# Altium footprint library Empreintes_LIB_atelier1A.PcbLib: 72 footprints (part 4 of 5)
Each footprint in its own frame and in the unit in brackets; x right, y up, seen from the top. Pads: shape width x height; smd on the part's side, far side on the other; paste and mask are expansions set on the pad; w line width, h text height; cw(c..) or ccw(c..) is an arc to the next point about the centre after c.
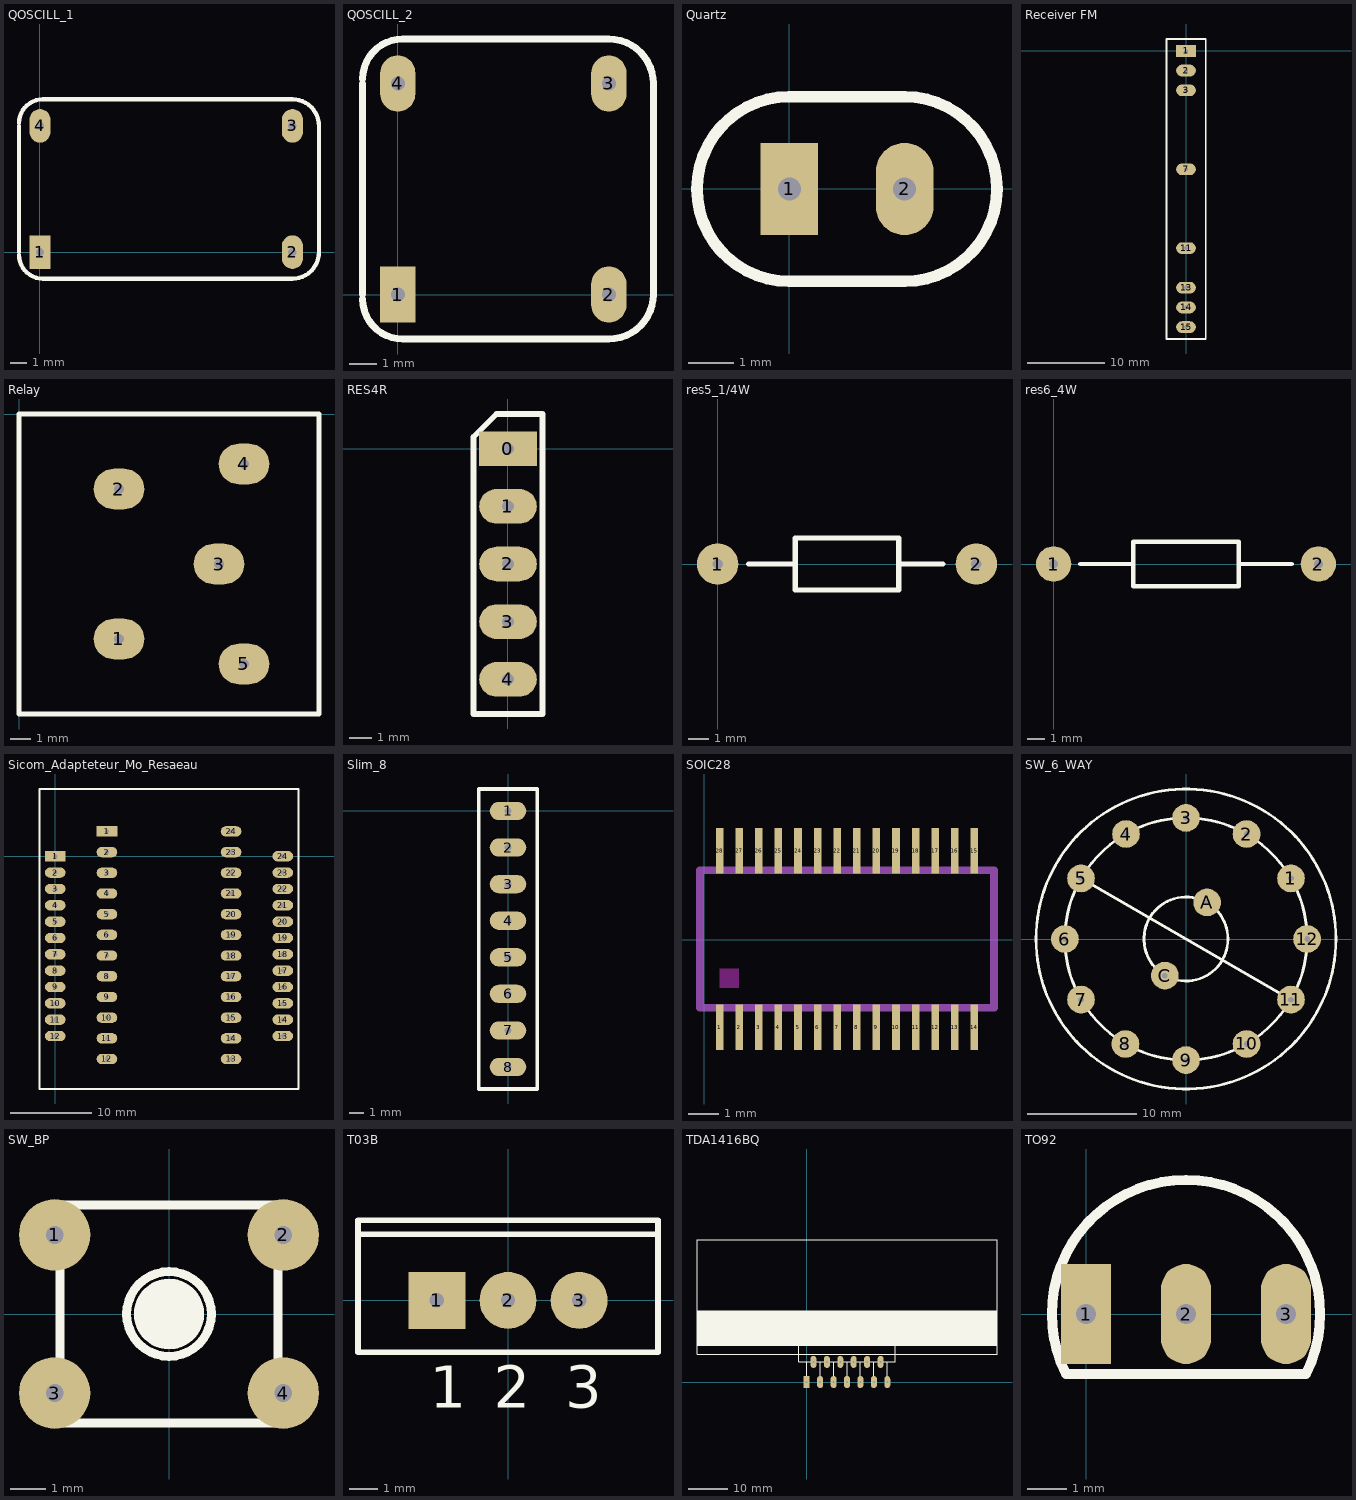
[diagram p3: the footprints below, top view; thin cyan lines are the x and y axes]

## QOSCILL_1 [mil]
pads (4):
  rect 50x80 hole 20: 1(0,0)
  oval 50x80 hole 20: 2(600,0) 3(600,300) 4(0,300)
TopOverlay:
  lines w10: -49.89,-6.68 ccw(c6.68,-6.68) 6.68,-63.25 600,-63.25 ccw(c600,0) 663.25,0 663.25,300 ccw(c600,300) 600,363.25 6.68,363.25 ccw(c6.68,306.68) -49.89,306.68 ; -49.89,0 -49.89,300

## QOSCILL_2 [mil]
pads (4):
  rect 50x80 hole 20: 1(0,0)
  oval 50x80 hole 20: 2(300,0) 3(300,300) 4(0,300)
TopOverlay:
  lines w10: -49.89,-6.68 ccw(c6.68,-6.68) 6.68,-63.25 300,-63.25 ccw(c300,0) 363.25,0 363.25,300 ccw(c300,300) 300,363.25 6.68,363.25 ccw(c6.68,306.68) -49.89,306.68 ; -49.89,0 -49.89,300

## Quartz [mil]
pads (2):
  rect 50x80 hole 20: 1(0,0)
  oval 50x80 hole 20: 2(100,0)
TopOverlay:
  lines w10: 0,-80 cw(c0,0) 0,80 100,80 cw(c100,0) 100,-80 0,-80

## Receiver FM [mil]
pads (8):
  rect 100x60 hole 20: 1(0,0)
  oval 100x60 hole 20: 2(0,-100) 3(0,-200) 7(0,-600) 11(0,-1000) 13(0,-1200) 14(0,-1300) 15(0,-1400)
TopOverlay:
  lines w10: -100,-1460 100,-1460 100,20 100,60 -100,60 -100,20 -100,-1460

## Relay [mil]
pads (5):
  oval 100x80 hole 20: 1(196.85,-442.91) 2(196.85,-147.64) 3(393.7,-295.28) 4(442.91,-98.42) 5(442.91,-492.13)
TopOverlay:
  lines w10: 0,-590.55 590.55,-590.55 590.55,0 0,0 0,-590.55

## RES4R [mil]
pads (5):
  rect 100x60 hole 20: 0(0,0)
  oval 100x60 hole 20: 1(0,-100) 2(0,-200) 3(0,-300) 4(0,-400)
TopOverlay:
  lines w10: -60,-460 60,-460 60,60 -20,60 -60,20 -60,-460

## res5_1/4W [mil]
pads (2):
  round 80 hole 20: 1(0,0) 2(500,0)
TopOverlay:
  lines w10: 60,0 145,0 ; 350,0 435,0 ; 150,-50 180,-50 350,-50 350,50 180,50 150,50 150,0 150,-50

## res6_4W [mil]
pads (2):
  round 80 hole 20: 1(0,0) 2(600,0)
TopOverlay:
  lines w10: 60,0 180,0 ; 420,0 540,0 ; 180,-50 420,-50 420,50 180,50 180,-50

## Sicom_Adapteteur_Mo_Resaeau [mil]
pads (48):
  rect 100x50 hole 20: 1(0,0) 1(250,120)
  oval 100x50 hole 20: 2(0,-79) 2(250,20) 3(0,-158) 3(250,-80) 4(0,-237) 4(250,-180) 5(0,-316) 5(250,-280) 6(0,-395) 6(250,-380) 7(0,-474) 7(250,-480) 8(0,-553) 8(250,-580) 9(0,-632) 9(250,-680) 10(0,-711) 10(250,-780) 11(0,-790) 11(250,-880) 12(0,-869) 12(250,-980) 13(850,-980) 13(1100,-869) 14(850,-880) 14(1100,-790) 15(850,-780) 15(1100,-711) 16(850,-680) 16(1100,-632) 17(850,-580) 17(1100,-553) 18(850,-480) 18(1100,-474) 19(850,-380) 19(1100,-395) 20(850,-280) 20(1100,-316) 21(850,-180) 21(1100,-237) 22(850,-80) 22(1100,-158) 23(850,20) 23(1100,-79) 24(850,120) 24(1100,0)
TopOverlay:
  lines w10: -75,-1125 -75,325 1175,325 1175,-1125 -75,-1125

## Slim_8 [mil]
pads (8):
  oval 100x50 hole 20: 1(0,0) 2(0,-100) 3(0,-200) 4(0,-300) 5(0,-400) 6(0,-500) 7(0,-600) 8(0,-700)
TopOverlay:
  lines w10: -80,-760 80,-760 80,60 -80,60 -80,-760

## SOIC28 [mm]
pads (28):
  rect 0.25x1.5 smd: 1(0.508,-2.906) 2(1.158,-2.906) 3(1.808,-2.906) 4(2.458,-2.906) 5(3.108,-2.906) 6(3.758,-2.906) 7(4.408,-2.906) 8(5.058,-2.906) 9(5.708,-2.906) 10(6.358,-2.906) 11(7.008,-2.906) 12(7.658,-2.906) 13(8.308,-2.906) 14(8.958,-2.906) 15(8.958,2.944) 16(8.308,2.944) 17(7.658,2.944) 18(7.008,2.944) 19(6.358,2.944) 20(5.708,2.944) 21(5.058,2.944) 22(4.408,2.944) 23(3.758,2.944) 24(3.108,2.944) 25(2.458,2.944) 26(1.808,2.944) 27(1.158,2.944) 28(0.508,2.944)
KeepOutLayer:
  rectangle: 0.508,-1.606 1.158,-0.956
Mechanical1:
  lines w0.254: -0.142,-2.256 -0.142,2.294 9.608,2.294 9.608,-2.256 -0.142,-2.256

## SW_6_WAY [mm]
pads (14):
  round 2.54 hole 0.508: 1(9.625,5.55) 2(5.55,9.625) 3(0,11.1) 4(-5.5,9.625) 5(-9.625,5.55) 6(-11.1,0) 7(-9.625,-5.55) 8(-5.55,-9.625) 9(0,-11.1) 10(5.55,-9.625) 11(9.625,-5.55) 12(11.1,0) A(1.935,3.356) C(-1.935,-3.356)
TopOverlay:
  circle w0.254: c0,0 r11.1
  circle w0.254: c0,0 r3.85
  circle w0.254: c0,0 r13.75
  lines w0.254: -9.625,5.55 9.625,-5.55

## SW_BP [mil]
pads (4):
  round 80 hole 20: 1(-127.95,88.58) 2(127.95,88.58) 3(-127.95,-88.58) 4(127.95,-88.58)
TopOverlay:
  circle w39.37: c0,0 r19.68
  circle w10: c0,0 r47.4
  lines w10: -122.05,-122.05 122.05,-122.05 122.05,122.05 -122.05,122.05 -122.05,-122.05

## T03B [mil] "TO, Thru-Hole, Vertical, Heatsink Mounted; 3 In-Line Leads; Pitch 2.54 mm"
height 763.78
pads (3):
  rect 80x80 hole 20: 1(-100,0)
  round 80 hole 20: 2(0,0) 3(100,0)
TopOverlay:
  lines w7.87: -210.63,92.52 210.63,92.52 ; -210.63,-72.83 -210.63,112.2 210.63,112.2 210.63,-72.83 -210.63,-72.83
  text "3" at 80.31,-150.59 h59.06
  text "1" at -109.84,-150.59 h59.06
  text "2" at -19.68,-150.59 h59.06

## TDA1416BQ [mil]
pads (13):
  rect 60x120 hole 20: 1(0,0)
  oval 60x120 hole 20: 2(66.93,200.79) 3(133.86,0) 4(200.79,200.79) 5(267.72,0) 6(334.65,200.79) 7(401.57,0) 8(468.5,200.79) 9(535.43,0) 10(602.36,200.79) 11(669.29,0) 12(736.22,200.79) 13(803.15,0)
TopOverlay:
  rectangle: -1094.49,366.14 1897.64,712.6
  lines w10: -1094.49,366.14 1897.64,366.14 ; -1094.49,708.66 1897.64,708.66 ; 0,0 0,200.79 ; 133.86,0 133.86,200.79 ; 267.72,0 267.72,200.79 ; 401.57,0 401.57,200.79 ; 531.5,200.79 535.43,196.85 535.43,0 ; 669.29,0 669.29,200.79 ; 803.15,0 803.15,200.79 ; -1094.49,275.59 1897.64,275.59 1897.64,1417.32 -1094.49,1417.32 -1094.49,275.59 ; -78.74,200.79 86.61,200.79 881.89,200.79 881.89,366.14 251.97,366.14 -78.74,366.14 -78.74,200.79

## TO92 [mil]
pads (3):
  rect 50x100 hole 20: 1(0,0)
  oval 50x100 hole 20: 2(100,0) 3(200,0)
TopOverlay:
  lines w10: -20,-60 cw(c100,0) 220,-60 -20,-60